# Altium footprint library Res PTH.PcbLib: 1 footprints
Each footprint in its own frame and in the unit in brackets; x right, y up, seen from the top. Pads: shape width x height; smd on the part's side, far side on the other; paste and mask are expansions set on the pad; w line width, h text height; cw(c..) or ccw(c..) is an arc to the next point about the centre after c.
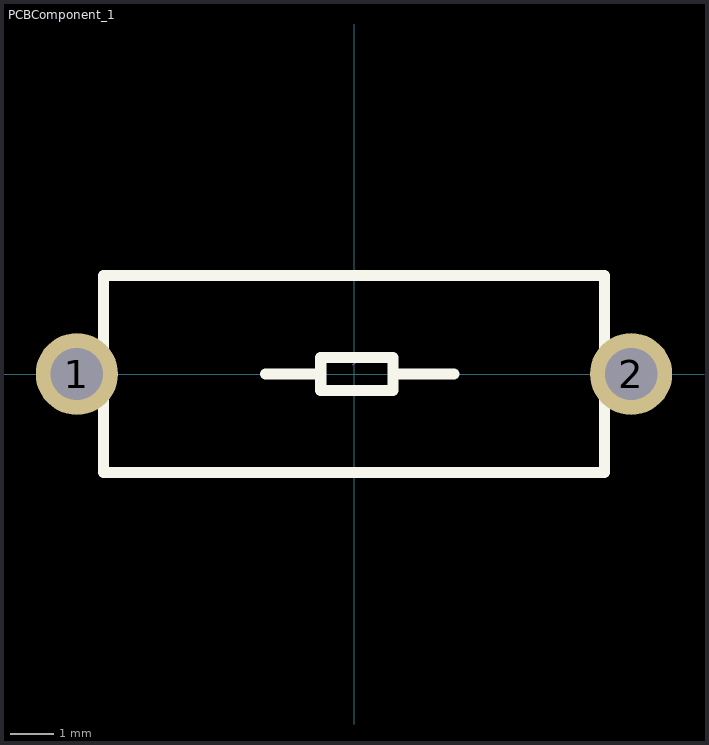
[diagram p0: the footprint, top view; thin cyan lines are the x and y axes]

## PCBComponent_1 [mil]
pads (2):
  round 74 hole 47.2: 1(-250,0) 2(250,0)
Top Overlay:
  lines w10: -80,0 -30,0 ; 35,0 90,0 ; -226,-89 -226,89 226,89 226,-89 -226,-89 ; -30,-15 -30,15 35,15 35,-15 -30,-15
Mechanical 15:
  lines w0.1: -1,8.25 1,10.25
3D body "User Library-Res50-Axial 0_5W-10R (1).step": height 299.09, standoff -70, extent -264.76,-73.81 264.77,73.82